# EAGLE library part AD8544 (library analog)
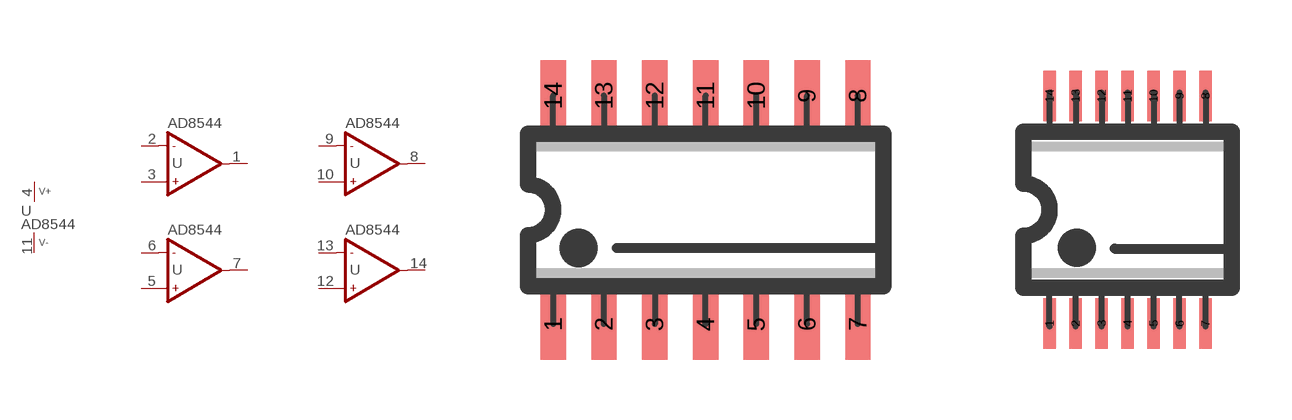
[diagram p3: symbol with the pads of SO14; footprints SO14, TSSOP14]

Designator prefix -; gates G$1=OP-PART G$2=OP-PART G$3=OP-PART G$4=OP-PART G$5=V+-

## AD8544SOIC14  [SO14]
1  G$1:OUT  out
2  G$1:IN-  in
3  G$1:IN+  in
4  G$5:V+  pwr
5  G$2:IN+  in
6  G$2:IN-  in
7  G$2:OUT  out
8  G$3:OUT  out
9  G$3:IN-  in
10  G$3:IN+  in
11  G$5:V-  pwr
12  G$4:IN+  in
13  G$4:IN-  in
14  G$4:OUT  out

## AD8544  [TSSOP14]
Pads as for SO14

## Footprint SO14 (pad centres in mm)
SO-14, SMD SOIC IC package, 14 pins
smd 0.635 x 1.778: 1 -3.81,-2.857; 2 -2.54,-2.857; 3 -1.27,-2.857; 4 0,-2.857; 5 1.27,-2.857; 6 2.54,-2.857; 7 3.81,-2.857; 8 3.81,2.857; 9 2.54,2.857; 10 1.27,2.857; 11 0,2.857; 12 -1.27,2.857; 13 -2.54,2.857; 14 -3.81,2.857

## Footprint TSSOP14 (pad centres in mm)
TSSOP14, SMD TSSOP IC package, 14 pins
smd 0.305 x 1.27: 1 -1.95,-2.844; 2 -1.3,-2.844; 3 -0.65,-2.844; 4 0,-2.844; 5 0.65,-2.844; 6 1.3,-2.844; 7 1.95,-2.844; 8 1.95,2.844; 9 1.3,2.844; 10 0.65,2.844; 11 0,2.844; 12 -0.65,2.844; 13 -1.3,2.844; 14 -1.95,2.844